# Altium footprint library KF2EDGRH-3.81.PcbLib: 2 footprints
Each footprint in its own frame and in the unit in brackets; x right, y up, seen from the top. Pads: shape width x height; smd on the part's side, far side on the other; paste and mask are expansions set on the pad; w line width, h text height; cw(c..) or ccw(c..) is an arc to the next point about the centre after c.
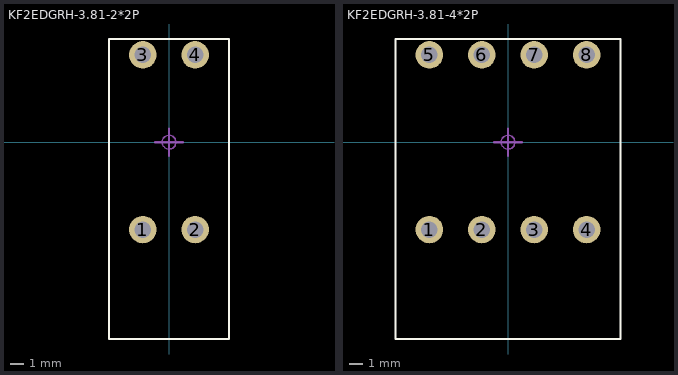
[diagram p0: the footprints below, top view; thin cyan lines are the x and y axes]

## KF2EDGRH-3.81-2*2P [mm]
height 22.7
pads (4):
  round 2 hole 1.2: 1(-1.905,-6.35) 2(1.905,-6.35) 3(-1.905,6.35) 4(1.905,6.35)
Top Overlay:
  lines w0.152: -4.36,-14.3 -4.36,7.5 4.36,7.5 4.36,-14.3 -4.36,-14.3
Mechanical 15:
  circle w0.1: c0,0 r0.5
  lines w0.152: -1,0 1,0 ; 0,-1 0,1
3D body: height 0, standoff -3.7, extent 1.496,5.924 2.296,6.724
3D body: height 0, standoff -3.7, extent -2.314,5.924 -1.514,6.724
3D body: height 0, standoff -3.7, extent 1.496,-6.776 2.296,-5.976
3D body: height 0, standoff -3.7, extent -2.314,-6.776 -1.514,-5.976
3D body: height 22.7, standoff 0, extent -4.36,-14.3 4.36,7.5

## KF2EDGRH-3.81-4*2P [mm]
height 22.7
pads (8):
  round 2 hole 1.2: 1(-5.715,-6.35) 2(-1.905,-6.35) 3(1.905,-6.35) 4(5.715,-6.35) 5(-5.715,6.35) 6(-1.905,6.35) 7(1.905,6.35) 8(5.715,6.35)
Top Overlay:
  lines w0.152: -8.17,-14.3 -8.17,7.5 8.17,7.5 8.17,-14.3 -8.17,-14.3
Mechanical 15:
  circle w0.1: c0,0 r0.5
  lines w0.152: -1,0 1,0 ; 0,-1 0,1
3D body: height 0, standoff -3.7, extent -6.115,5.95 -5.315,6.75
3D body: height 0, standoff -3.7, extent -2.305,5.95 -1.505,6.75
3D body: height 0, standoff -3.7, extent -6.115,-6.75 -5.315,-5.95
3D body: height 0, standoff -3.7, extent -2.305,-6.75 -1.505,-5.95
3D body: height 0, standoff -3.7, extent 1.505,5.95 2.305,6.75
3D body: height 0, standoff -3.7, extent 5.315,5.95 6.115,6.75
3D body: height 0, standoff -3.7, extent 1.505,-6.75 2.305,-5.95
3D body: height 0, standoff -3.7, extent 5.315,-6.75 6.115,-5.95
3D body: height 22.7, standoff 0, extent -8.17,-14.3 8.17,7.5